# Altium schematic symbol library SCH - CHOKE - WURTH WE-LF.SchLib: 1 symbol
Pins are listed as number, name and electrical type; pins without a type are passive.

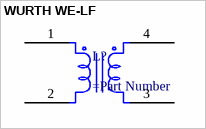
[diagram p0: symbol WURTH WE-LF]

## WURTH WE-LF
designator L?
pins: 1, 2, 3, 4